# Altium footprint library WE-SPXO.PcbLib: 20 footprints (part 1 of 2)
Each footprint in its own frame and in the unit in brackets; x right, y up, seen from the top. Pads: shape width x height; smd on the part's side, far side on the other; paste and mask are expansions set on the pad; w line width, h text height; cw(c..) or ccw(c..) is an arc to the next point about the centre after c.
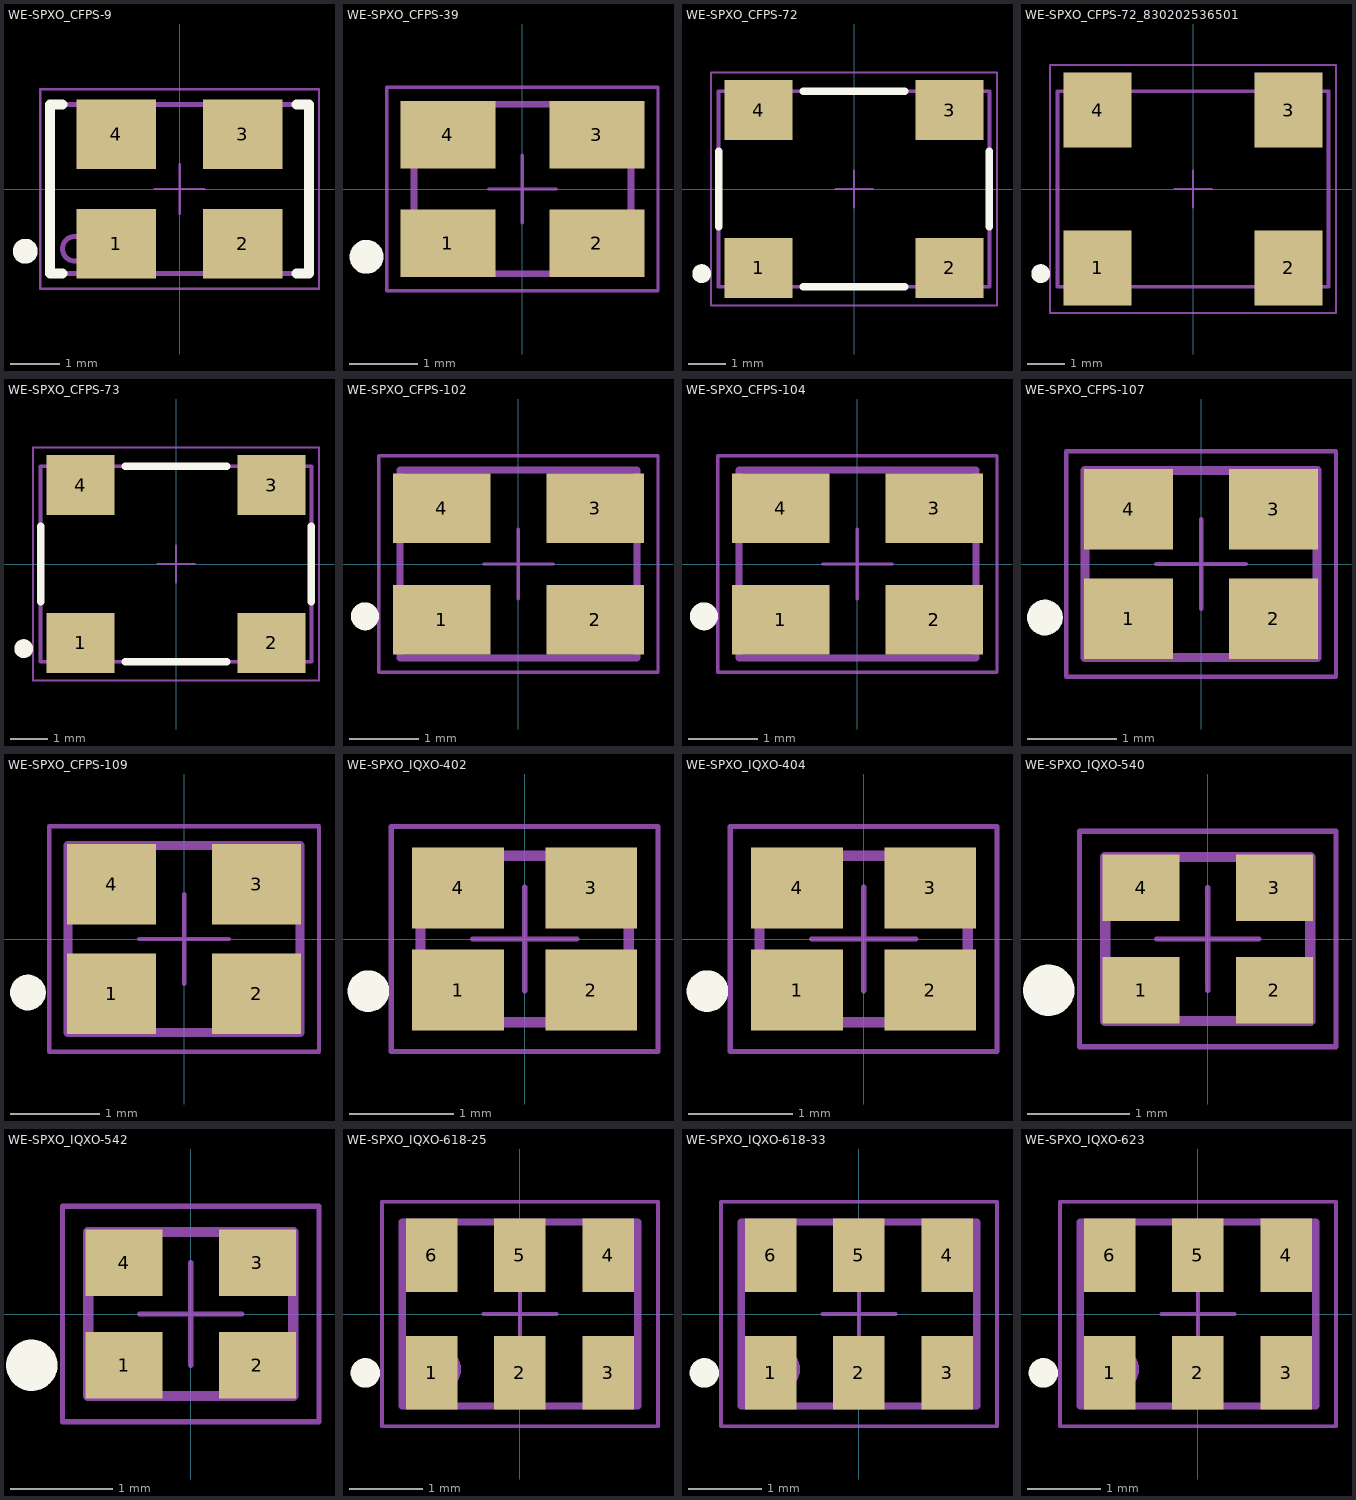
[diagram p0: the footprints below, top view; thin cyan lines are the x and y axes]

## WE-SPXO_CFPS-9 [mm] "Simple Packaged Quartz Oscillator, body 5.2x3.4mm"
height 1.3
pads (4):
  rect 1.6x1.4 smd: 1(-1.27,-1.1) 2(1.27,-1.1) 3(1.27,1.1) 4(-1.27,1.1)
Top Overlay:
  circle w0.25: c-3.1,-1.25 r0.125
  lines w0.2: -2.35,-1.7 -2.6,-1.7 -2.6,1.7 -2.35,1.7 ; 2.35,-1.7 2.6,-1.7 2.6,1.7 2.35,1.7
Top Designator:
  text ".Designator" at -7.498,-0.5 h1.5
Top Component Outline:
  circle w0.1: c-2.1,-1.2 r0.25
  lines w0.1: -2.6,-1.7 -2.6,1.7 2.6,1.7 2.6,-1.7 -2.6,-1.7
Top 3D Body:
  circle w0.1: c-2.1,-1.2 r0.25
  lines w0.1: -2.6,-1.7 2.6,-1.7 2.6,1.7 -2.6,1.7 -2.6,-1.7
Top Courtyard:
  lines w0.05: -0.5,0 0.5,0 ; 0,-0.5 0,0.5 ; -2.8,-2 2.8,-2 2.8,2 -2.8,2 -2.8,-2
3D body "FrqSPXO_CFPS-9.stp": height 1.3, standoff 0, extent -2.6,-1.7 2.6,1.7

## WE-SPXO_CFPS-39 [mm] "Simple Packaged Quartz Oscillator, body 3.2x2.5mm"
height 1.2
pads (4):
  rect 1.4x1 smd: 1(-1.1,-0.8) 2(1.1,-0.8) 3(1.1,0.8) 4(-1.1,0.8)
Top Overlay:
  circle w0.25: c-2.3,-1 r0.125
Top Designator:
  text ".Designator" at -5.998,-0.4 h1.2
Top Component Outline:
  circle w0.1: c-1.1,-0.75 r0.2
  lines w0.1: -1.6,-1.25 1.6,-1.25 1.6,1.25 -1.6,1.25 -1.6,-1.25
Top 3D Body:
  circle w0.1: c-1.1,-0.75 r0.2
  lines w0.1: -1.6,-1.25 -1.6,1.25 1.6,1.25 1.6,-1.25 -1.6,-1.25
Top Courtyard:
  lines w0.05: -0.5,0 0.5,0 ; 0,-0.5 0,0.5 ; -2,-1.5 2,-1.5 2,1.5 -2,1.5 -2,-1.5
3D body "FrqSPXO_CFPS-39.stp": height 1.05, standoff 0, extent -1.6,-1.25 1.6,1.25

## WE-SPXO_CFPS-72 [mm] "Simple Packaged Quartz Oscillator, body 7.2x5.2mm"
height 1.4
pads (4):
  rect 1.8x1.6 smd: 1(-2.54,-2.1) 2(2.54,-2.1) 3(2.54,2.1) 4(-2.54,2.1)
Top Overlay:
  circle w0.25: c-4.05,-2.25 r0.125
  lines w0.2: -3.6,-1 -3.6,1 ; -1.35,-2.6 1.35,-2.6 ; -1.35,2.6 1.35,2.6 ; 3.6,-1 3.6,1
Top Designator:
  text ".Designator" at -7.498,-0.5 h1.5
Top Component Outline:
  circle w0.1: c-3,-2 r0.3
  lines w0.1: -3.6,-2.6 3.6,-2.6 3.6,2.6 -3.6,2.6 -3.6,-2.6
Top 3D Body:
  circle w0.1: c-3,-2 r0.3
  lines w0.1: -3.6,-2.6 -3.6,2.6 3.6,2.6 3.6,-2.6 -3.6,-2.6
Top Courtyard:
  lines w0.05: -0.5,0 0.5,0 ; 0,-0.5 0,0.5 ; -3.8,-3.1 -3.8,3.1 3.8,3.1 3.8,-3.1 -3.8,-3.1
3D body "FrqSPXO_CFPS-72.stp": height 1.35, standoff 0, extent -3.6,-2.6 3.6,2.6

## WE-SPXO_CFPS-72_830202536501 [mm] "Simple Packaged Quartz Oscillator, body 7.2x5.2mm"
height 1.4
pads (4):
  rect 1.8x2 smd: 1(-2.54,-2.1) 2(2.54,-2.1) 3(2.54,2.1) 4(-2.54,2.1)
Top Overlay:
  circle w0.25: c-4.05,-2.25 r0.125
Top Designator:
  text ".Designator" at -7.498,-0.5 h1.5
Top Component Outline:
  circle w0.1: c-3,-2 r0.3
  lines w0.1: -3.6,-2.6 3.6,-2.6 3.6,2.6 -3.6,2.6 -3.6,-2.6
Top 3D Body:
  circle w0.1: c-3,-2 r0.3
  lines w0.1: -3.6,-2.6 -3.6,2.6 3.6,2.6 3.6,-2.6 -3.6,-2.6
Top Courtyard:
  lines w0.05: -0.5,0 0.5,0 ; 0,-0.5 0,0.5 ; -3.8,-3.3 -3.8,3.3 3.8,3.3 3.8,-3.3 -3.8,-3.3
3D body "FrqSPXO_CFPS-72.stp": height 1.35, standoff 0, extent -3.6,-2.6 3.6,2.6

## WE-SPXO_CFPS-73 [mm] "Simple Packaged Quartz Oscillator, body 7.2x5.2mm"
height 1.4
pads (4):
  rect 1.8x1.6 smd: 1(-2.54,-2.1) 2(2.54,-2.1) 3(2.54,2.1) 4(-2.54,2.1)
Top Overlay:
  circle w0.25: c-4.05,-2.25 r0.125
  lines w0.2: -3.6,-1 -3.6,1 ; -1.35,-2.6 1.35,-2.6 ; -1.35,2.6 1.35,2.6 ; 3.6,-1 3.6,1
Top Designator:
  text ".Designator" at -7.498,-0.5 h1.5
Top Component Outline:
  circle w0.1: c-3,-2 r0.3
  lines w0.1: -3.6,-2.6 3.6,-2.6 3.6,2.6 -3.6,2.6 -3.6,-2.6
Top 3D Body:
  circle w0.1: c-3,-2 r0.3
  lines w0.1: -3.6,-2.6 -3.6,2.6 3.6,2.6 3.6,-2.6 -3.6,-2.6
Top Courtyard:
  lines w0.05: -0.5,0 0.5,0 ; 0,-0.5 0,0.5 ; -3.8,-3.1 -3.8,3.1 3.8,3.1 3.8,-3.1 -3.8,-3.1
3D body "FrqSPXO_CFPS-73.stp": height 1.35, standoff 0, extent -3.6,-2.6 3.6,2.6

## WE-SPXO_CFPS-102 [mm] "Crystal Oscillator, SMT, CFPS-102"
height 1.2
pads (4):
  rect 1.4x1 smd: 1(-1.1,-0.8) 2(1.1,-0.8) 3(1.1,0.8) 4(-1.1,0.8)
Top Overlay:
  circle w0.2: c-2.2,-0.75 r0.1
Top Designator:
  text ".Designator" at -5.998,-0.4 h1.2
Top Component Outline:
  circle w0.1: c-1.2,-0.85 r0.2
  lines w0.1: -1.7,-1.35 1.7,-1.35 1.7,1.35 -1.7,1.35 -1.7,-1.35
Top 3D Body:
  circle w0.1: c-1.2,-0.85 r0.2
  lines w0.1: -1.7,-1.35 -1.7,1.35 1.7,1.35 1.7,-1.35 -1.7,-1.35
Top Courtyard:
  lines w0.05: -0.5,0 0.5,0 ; 0,-0.5 0,0.5 ; -2,-1.55 -2,1.55 2,1.55 2,-1.55 -2,-1.55
3D body "CFPS-102.stp": height 1.2, standoff 0, extent -1.6,-1.25 1.6,1.25

## WE-SPXO_CFPS-104 [mm] "Crystal Oscillator, SMT, CFPS-104"
height 1.2
pads (4):
  rect 1.4x1 smd: 1(-1.1,-0.8) 2(1.1,-0.8) 3(1.1,0.8) 4(-1.1,0.8)
Top Overlay:
  circle w0.2: c-2.2,-0.75 r0.1
Top Designator:
  text ".Designator" at -5.998,-0.4 h1.2
Top Component Outline:
  circle w0.1: c-1.2,-0.85 r0.2
  lines w0.1: -1.7,-1.35 1.7,-1.35 1.7,1.35 -1.7,1.35 -1.7,-1.35
Top 3D Body:
  circle w0.1: c-1.2,-0.85 r0.2
  lines w0.1: -1.7,-1.35 -1.7,1.35 1.7,1.35 1.7,-1.35 -1.7,-1.35
Top Courtyard:
  lines w0.05: -0.5,0 0.5,0 ; 0,-0.5 0,0.5 ; -2,-1.55 -2,1.55 2,1.55 2,-1.55 -2,-1.55
3D body "CFPS-104.stp": height 1.2, standoff 0, extent -1.6,-1.25 1.6,1.25

## WE-SPXO_CFPS-107 [mm] "Crystal Oscillator, SMT, CFPS-107"
height 0.95
pads (4):
  rect 1x0.9 smd: 1(-0.813,-0.613) 2(0.813,-0.613) 3(0.813,0.613) 4(-0.813,0.613)
Top Overlay:
  circle w0.2: c-1.75,-0.6 r0.1
Top Designator:
  text ".Designator" at -4.998,-0.333 h1
Top Component Outline:
  circle w0.1: c-0.8,-0.55 r0.2
  lines w0.1: -1.3,-1.05 -1.3,1.05 1.3,1.05 1.3,-1.05 -1.3,-1.05
Top 3D Body:
  circle w0.1: c-0.8,-0.55 r0.2
  lines w0.1: -1.3,-1.05 1.3,-1.05 1.3,1.05 -1.3,1.05 -1.3,-1.05
Top Courtyard:
  lines w0.05: -0.5,0 0.5,0 ; 0,-0.5 0,0.5 ; -1.512,-1.262 -1.512,1.262 1.512,1.262 1.512,-1.262 -1.512,-1.262
3D body "CFPS-107.stp": height 0.95, standoff 0, extent -1.25,-1 1.25,1

## WE-SPXO_CFPS-109 [mm] "Crystal Oscillator, SMT, CFPS-109"
height 0.95
pads (4):
  rect 1x0.9 smd: 1(-0.813,-0.613) 2(0.813,-0.613) 3(0.813,0.613) 4(-0.813,0.613)
Top Overlay:
  circle w0.2: c-1.75,-0.6 r0.1
Top Designator:
  text ".Designator" at -4.998,-0.333 h1
Top Component Outline:
  circle w0.1: c-0.8,-0.55 r0.2
  lines w0.1: -1.3,-1.05 1.3,-1.05 1.3,1.05 -1.3,1.05 -1.3,-1.05
Top 3D Body:
  circle w0.1: c-0.8,-0.55 r0.2
  lines w0.1: -1.3,-1.05 -1.3,1.05 1.3,1.05 1.3,-1.05 -1.3,-1.05
Top Courtyard:
  lines w0.05: -0.5,0 0.5,0 ; 0,-0.5 0,0.5 ; -1.512,-1.262 1.512,-1.262 1.512,1.262 -1.512,1.262 -1.512,-1.262
3D body "CFPS-109.stp": height 0.95, standoff 0, extent -1.25,-1 1.25,1

## WE-SPXO_IQXO-402 [mm] "Crystal Oscillator, SMT, IQXO-402"
height 0.8
pads (4):
  rect 0.88x0.78 smd: 1(-0.64,-0.49) 2(0.64,-0.49) 3(0.64,0.49) 4(-0.64,0.49)
Top Overlay:
  circle w0.2: c-1.5,-0.5 r0.1
Top Designator:
  text ".Designator" at -3.499,-0.233 h0.7
Top Component Outline:
  circle w0.075: c-0.7,-0.5 r0.15
  lines w0.1: -1,-0.8 1,-0.8 1,0.8 -1,0.8 -1,-0.8
Top 3D Body:
  circle w0.075: c-0.7,-0.5 r0.15
  lines w0.1: -1,-0.8 -1,0.8 1,0.8 1,-0.8 -1,-0.8
Top Courtyard:
  lines w0.05: -0.5,0 0.5,0 ; 0,-0.5 0,0.5 ; -1.28,-1.08 -1.28,1.08 1.28,1.08 1.28,-1.08 -1.28,-1.08
3D body "IQXO-402.stp": height 0.8, standoff 0, extent -1,-0.8 1,0.8

## WE-SPXO_IQXO-404 [mm] "Crystal Oscillator, SMT, IQXO-404"
height 0.8
pads (4):
  rect 0.88x0.78 smd: 1(-0.64,-0.49) 2(0.64,-0.49) 3(0.64,0.49) 4(-0.64,0.49)
Top Overlay:
  circle w0.2: c-1.5,-0.5 r0.1
Top Designator:
  text ".Designator" at -3.499,-0.233 h0.7
Top Component Outline:
  circle w0.075: c-0.7,-0.5 r0.15
  lines w0.1: -1,-0.8 1,-0.8 1,0.8 -1,0.8 -1,-0.8
Top 3D Body:
  circle w0.075: c-0.7,-0.5 r0.15
  lines w0.1: -1,-0.8 -1,0.8 1,0.8 1,-0.8 -1,-0.8
Top Courtyard:
  lines w0.05: -0.5,0 0.5,0 ; 0,-0.5 0,0.5 ; -1.28,-1.08 -1.28,1.08 1.28,1.08 1.28,-1.08 -1.28,-1.08
3D body "IQXO-404.stp": height 0.8, standoff 0, extent -1,-0.8 1,0.8

## WE-SPXO_IQXO-540 [mm] "Simple Packaged Quartz Oscillator, body 2x1.6mm"
height 0.7
pads (4):
  rect 0.75x0.65 smd: 1(-0.65,-0.5) 2(0.65,-0.5) 3(0.65,0.5) 4(-0.65,0.5)
Top Overlay:
  circle w0.25: c-1.55,-0.5 r0.125
Top Designator:
  text ".Designator" at -3.499,-0.233 h0.7
Top Component Outline:
  circle w0.1: c-0.65,-0.45 r0.15
  lines w0.1: -1,-0.8 -1,0.8 1,0.8 1,-0.8 -1,-0.8
Top 3D Body:
  circle w0.1: c-0.65,-0.45 r0.15
  lines w0.1: -1,-0.8 1,-0.8 1,0.8 -1,0.8 -1,-0.8
Top Courtyard:
  lines w0.05: -0.5,0 0.5,0 ; 0,-0.5 0,0.5 ; -1.25,-1.05 -1.25,1.05 1.25,1.05 1.25,-1.05 -1.25,-1.05
3D body "FrqSPXO_IQXO-540.stp": height 0.7, standoff 0, extent -1,-0.8 1,0.8

## WE-SPXO_IQXO-542 [mm] "Simple Packaged Quartz Oscillator, body 2x1.6mm"
height 0.7
pads (4):
  rect 0.75x0.65 smd: 1(-0.65,-0.5) 2(0.65,-0.5) 3(0.65,0.5) 4(-0.65,0.5)
Top Overlay:
  circle w0.25: c-1.55,-0.5 r0.125
Top Designator:
  text ".Designator" at -3.499,-0.233 h0.7
Top Component Outline:
  circle w0.1: c-0.65,-0.45 r0.15
  lines w0.1: -1,-0.8 1,-0.8 1,0.8 -1,0.8 -1,-0.8
Top 3D Body:
  circle w0.1: c-0.65,-0.45 r0.15
  lines w0.1: -1,-0.8 -1,0.8 1,0.8 1,-0.8 -1,-0.8
Top Courtyard:
  lines w0.05: -0.5,0 0.5,0 ; 0,-0.5 0,0.5 ; -1.25,-1.05 -1.25,1.05 1.25,1.05 1.25,-1.05 -1.25,-1.05
3D body "FrqSPXO_IQXO-542.stp": height 0.7, standoff 0, extent -1,-0.8 1,0.8

## WE-SPXO_IQXO-618-25 [mm] "Crystal Oscillator, SMT, IQXO-618-25"
height 1.1
pads (6):
  rect 0.7x1 smd: 1(-1.2,-0.8) 2(0,-0.8) 3(1.2,-0.8) 4(1.2,0.8) 5(0,0.8) 6(-1.2,0.8)
Top Overlay:
  circle w0.2: c-2.1,-0.8 r0.1
Top Designator:
  text ".Designator" at -4.998,-0.333 h1
Top Component Outline:
  circle w0.1: c-1.1,-0.75 r0.25
  lines w0.1: -1.6,-1.25 1.6,-1.25 1.6,1.25 -1.6,1.25 -1.6,-1.25
Top 3D Body:
  circle w0.1: c-1.1,-0.75 r0.25
  lines w0.1: -1.6,-1.25 -1.6,1.25 1.6,1.25 1.6,-1.25 -1.6,-1.25
Top Courtyard:
  lines w0.05: -0.5,0 0.5,0 ; 0,-0.5 0,0.5 ; -1.875,-1.525 1.875,-1.525 1.875,1.525 -1.875,1.525 -1.875,-1.525
3D body "IQXO-618-25.stp": height 1.1, standoff 0, extent -1.6,-1.25 1.6,1.25

## WE-SPXO_IQXO-618-33 [mm] "Crystal Oscillator, SMT, IQXO-618-33"
height 1.1
pads (6):
  rect 0.7x1 smd: 1(-1.2,-0.8) 2(0,-0.8) 3(1.2,-0.8) 4(1.2,0.8) 5(0,0.8) 6(-1.2,0.8)
Top Overlay:
  circle w0.2: c-2.1,-0.8 r0.1
Top Designator:
  text ".Designator" at -4.998,-0.333 h1
Top Component Outline:
  circle w0.1: c-1.1,-0.75 r0.25
  lines w0.1: -1.6,-1.25 1.6,-1.25 1.6,1.25 -1.6,1.25 -1.6,-1.25
Top 3D Body:
  circle w0.1: c-1.1,-0.75 r0.25
  lines w0.1: -1.6,-1.25 -1.6,1.25 1.6,1.25 1.6,-1.25 -1.6,-1.25
Top Courtyard:
  lines w0.05: -0.5,0 0.5,0 ; 0,-0.5 0,0.5 ; -1.875,-1.525 1.875,-1.525 1.875,1.525 -1.875,1.525 -1.875,-1.525
3D body "IQXO-618-33.stp": height 1.1, standoff 0, extent -1.6,-1.25 1.6,1.25

## WE-SPXO_IQXO-623 [mm] "Crystal Oscillator, SMT, IQXO-623"
height 1.1
pads (6):
  rect 0.7x1 smd: 1(-1.2,-0.8) 2(0,-0.8) 3(1.2,-0.8) 4(1.2,0.8) 5(0,0.8) 6(-1.2,0.8)
Top Overlay:
  circle w0.2: c-2.1,-0.8 r0.1
Top Designator:
  text ".Designator" at -4.998,-0.333 h1
Top Component Outline:
  circle w0.1: c-1.1,-0.75 r0.25
  lines w0.1: -1.6,-1.25 -1.6,1.25 1.6,1.25 1.6,-1.25 -1.6,-1.25
Top 3D Body:
  circle w0.1: c-1.1,-0.75 r0.25
  lines w0.1: -1.6,-1.25 1.6,-1.25 1.6,1.25 -1.6,1.25 -1.6,-1.25
Top Courtyard:
  lines w0.05: -0.5,0 0.5,0 ; 0,-0.5 0,0.5 ; -1.875,-1.525 -1.875,1.525 1.875,1.525 1.875,-1.525 -1.875,-1.525
3D body "IQXO-623.stp": height 1.1, standoff 0, extent -1.6,-1.25 1.6,1.25